# EAGLE library part ADG444 (library Dmitry)
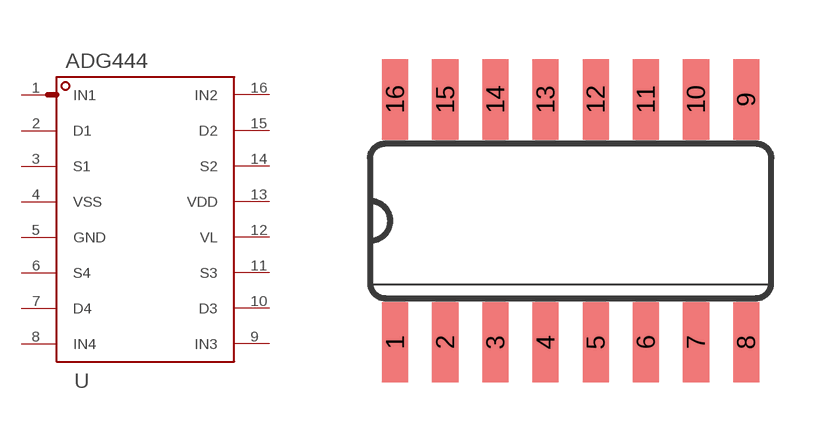
[diagram p8: symbol with the pads of SO16; footprint SO16]

Designator prefix U

## ADG444  [SO16]
1  IN1
2  D1
3  S1
4  VSS
5  GND
6  S4
7  D4
8  IN4
9  IN3
10  D3
11  S3
12  VL
13  VDD
14  S2
15  D2
16  IN2

## Footprint SO16 (pad centres in mm)
Small Outline Package
smd 0.66 x 2.032: 1 -4.445,-3.073; 2 -3.175,-3.073; 3 -1.905,-3.073; 4 -0.635,-3.073; 5 0.635,-3.073; 6 1.905,-3.073; 7 3.175,-3.073; 8 4.445,-3.073; 9 4.445,3.073; 10 3.175,3.073; 11 1.905,3.073; 12 0.635,3.073; 13 -0.635,3.073; 14 -1.905,3.073; 15 -3.175,3.073; 16 -4.445,3.073